# EAGLE library part KK_HEADER_6V_KEN (library EW_Connectors)
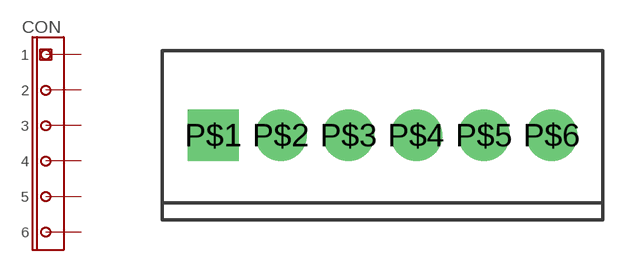
[diagram p22: symbol with the pads of KK_HEADER_6V_KEN; footprint KK_HEADER_6V_KEN]

Designator prefix CON

## KK_HEADER_6V_KEN  [KK_HEADER_6V_KEN]
P$1  1
P$2  2
P$3  3
P$4  4
P$5  5
P$6  6

## Footprint KK_HEADER_6V_KEN (pad centres in mm)
drill 1.2 pad 1.93 square: P$1 -6.35,0
drill 1.2 pad 1.93: P$2 -3.81,0; P$3 -1.27,0; P$4 1.27,0; P$5 3.81,0; P$6 6.35,0